# EAGLE library part MCP14700 (library pixhawk2)
MCP14700 Asynchronous MOSFET driver, 5V PDF datasheet <http://ww1.microchip.com/downloads/en/DeviceDoc/22201B.pdf>
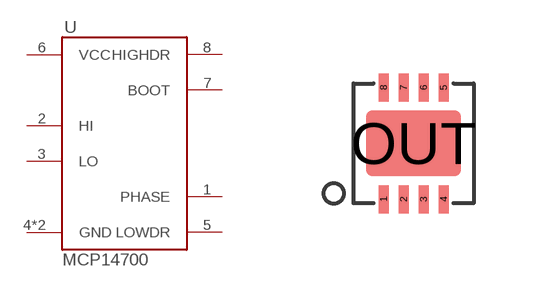
[diagram p99: symbol with the pads of DFN8+OUT_3X3MM; footprint DFN8+OUT_3X3MM]

Designator prefix -

## MCP14700  [DFN8+OUT_3X3MM]
1  PHASE  in
2  HI  in
3  LO  in
4  GND  in
5  LOWDR  in
6  VCC  in
7  BOOT  in
8  HIGHDR  in
OUT  GND  in

## Footprint DFN8+OUT_3X3MM (pad centres in mm)
smd 0.25 x 0.7: 1 -0.75,-1.4; 2 -0.25,-1.4; 3 0.25,-1.4; 4 0.75,-1.4; 5 0.75,1.4; 6 0.25,1.4; 7 -0.25,1.4; 8 -0.75,1.4
smd 2.38 x 1.65: OUT 0,0